# Altium footprint library TX5813.PcbLib: 1 footprints
Each footprint in its own frame and in the unit in brackets; x right, y up, seen from the top. Pads: shape width x height; smd on the part's side, far side on the other; paste and mask are expansions set on the pad; w line width, h text height; cw(c..) or ccw(c..) is an arc to the next point about the centre after c.
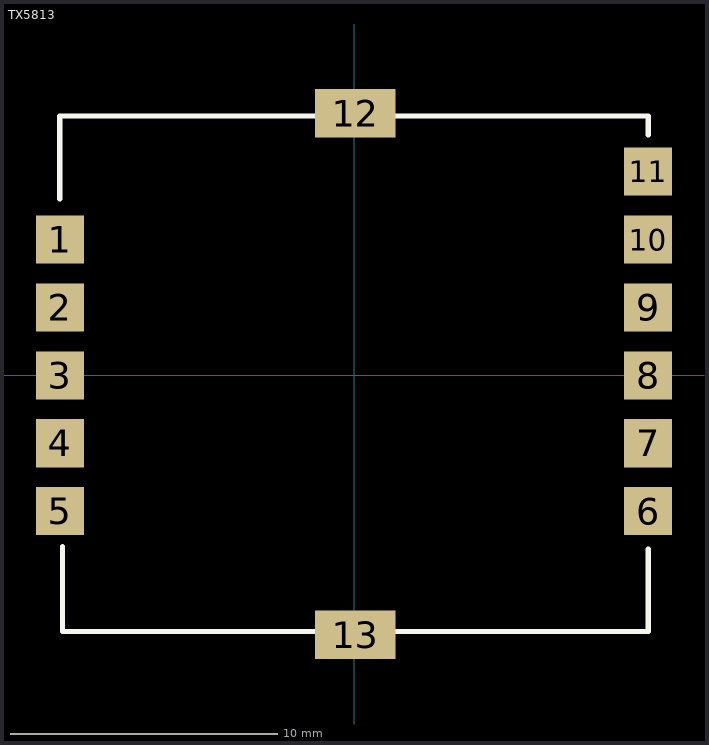
[diagram p0: the footprint, top view; thin cyan lines are the x and y axes]

## TX5813 [mm]
pads (13):
  rect 1.8x1.8 smd: 1(-11,5.08) 2(-11,2.54) 3(-11,0) 4(-11,-2.54) 5(-11,-5.08) 6(11,-5.08) 7(11,-2.54) 8(11,0) 9(11,2.54) 10(11,5.08) 11(11,7.62)
  rect 3x1.8 smd: 12(0.05,9.8) 13(0.05,-9.7)
Top Overlay:
  lines w0.2: -11,6.6 -11,9.7 -9.5,9.7 4.7,9.7 9.5,9.7 11,9.7 11,9 ; -10.9,-6.4 -10.9,-9.58 -9.5,-9.58 0.8,-9.58 9.5,-9.58 11,-9.58 11,-6.5
3D body: height 3, standoff 1, extent -9.5,-8.8 9.5,9
3D body: height 1, standoff 0, extent -11,-9.7 11.1,9.8